# EAGLE library part 74595 (library wntrmute)
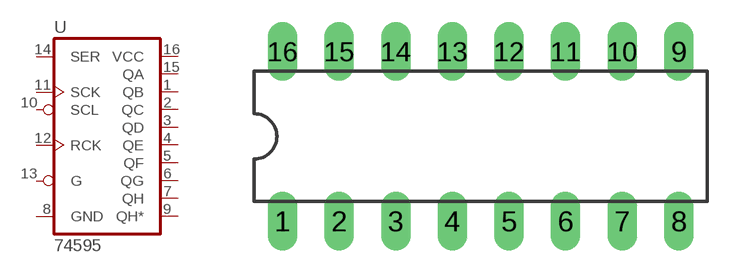
[diagram p14: symbol with the pads of DIL16; footprint DIL16]

Designator prefix -

## 74595  [DIL16]
1  QB  hiz
2  QC  hiz
3  QD  hiz
4  QE  hiz
5  QF  hiz
6  QG  hiz
7  QH  hiz
8  GND  pwr
9  QH*  hiz
10  SCL  in
11  SCK  in
12  RCK  in
13  G  in
14  SER  in
15  QA  hiz
16  VCC  pwr

## Footprint DIL16 (pad centres in mm)
Dual In Line Package
drill 0.813 long: 1 -8.89,-3.81; 2 -6.35,-3.81; 3 -3.81,-3.81; 4 -1.27,-3.81; 5 1.27,-3.81; 6 3.81,-3.81; 7 6.35,-3.81; 8 8.89,-3.81; 9 8.89,3.81; 10 6.35,3.81; 11 3.81,3.81; 12 1.27,3.81; 13 -1.27,3.81; 14 -3.81,3.81; 15 -6.35,3.81; 16 -8.89,3.81